# Altium footprint library 182-015-113R181.PcbLib: 1 footprints
Each footprint in its own frame and in the unit in brackets; x right, y up, seen from the top. Pads: shape width x height; smd on the part's side, far side on the other; paste and mask are expansions set on the pad; w line width, h text height; cw(c..) or ccw(c..) is an arc to the next point about the centre after c.
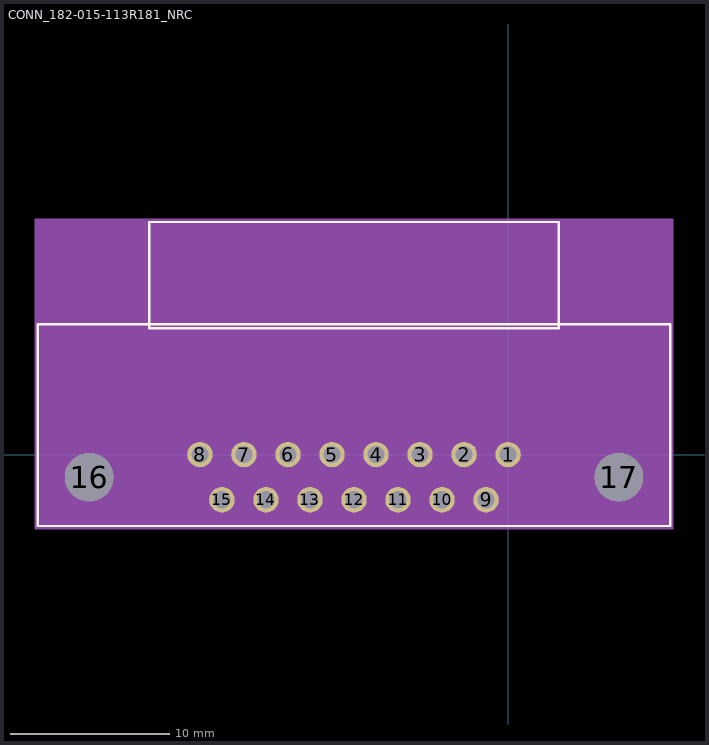
[diagram p0: the footprint, top view; thin cyan lines are the x and y axes]

## CONN_182-015-113R181_NRC [mil]
pads (17):
  round 63 / inner round 60 / far side round 63 hole 43 paste-31.5 mask+0: 1(0,0) 2(-109,0) 3(-218,0) 4(-327,0) 5(-436,0) 6(-545,0) 7(-654,0) 8(-763,0) 9(-54.5,-112) 10(-163.5,-112) 11(-272.5,-112) 12(-381.5,-112) 13(-490.5,-112) 14(-599.5,-112) 15(-708.5,-112)
  round 120 / inner round 60 / far side round 120 hole 120 unplated paste-60 mask-60: 16(-1037.5,-56) 17(274.5,-56)
Top Overlay:
  lines w6: -1164.5,-177 401.5,-177 401.5,323 -1164.5,323 -1164.5,-177 ; -888.5,313 125.5,313 125.5,576 -888.5,576 -888.5,313
  text "*" at -112.5,-25 h50
Mechanical 13:
  lines w1: -1159.5,-172 396.5,-172 396.5,318 -1159.5,318 -1159.5,-172 ; -883.5,318 120.5,318 120.5,571 -883.5,571 -883.5,318
  text "*" at -112.5,-25 h50
Mechanical 15:
  region: 406.5,-182 406.5,581 -1169.5,581 -1169.5,-182
  lines w6: -1169.5,-182 -1169.5,581 406.5,581 406.5,-182 -1169.5,-182